# Altium integrated library Linear Technology Power Management Switching Regulator LTC1174-LTC3901.IntLib: 2647 symbols (part 184 of 364)
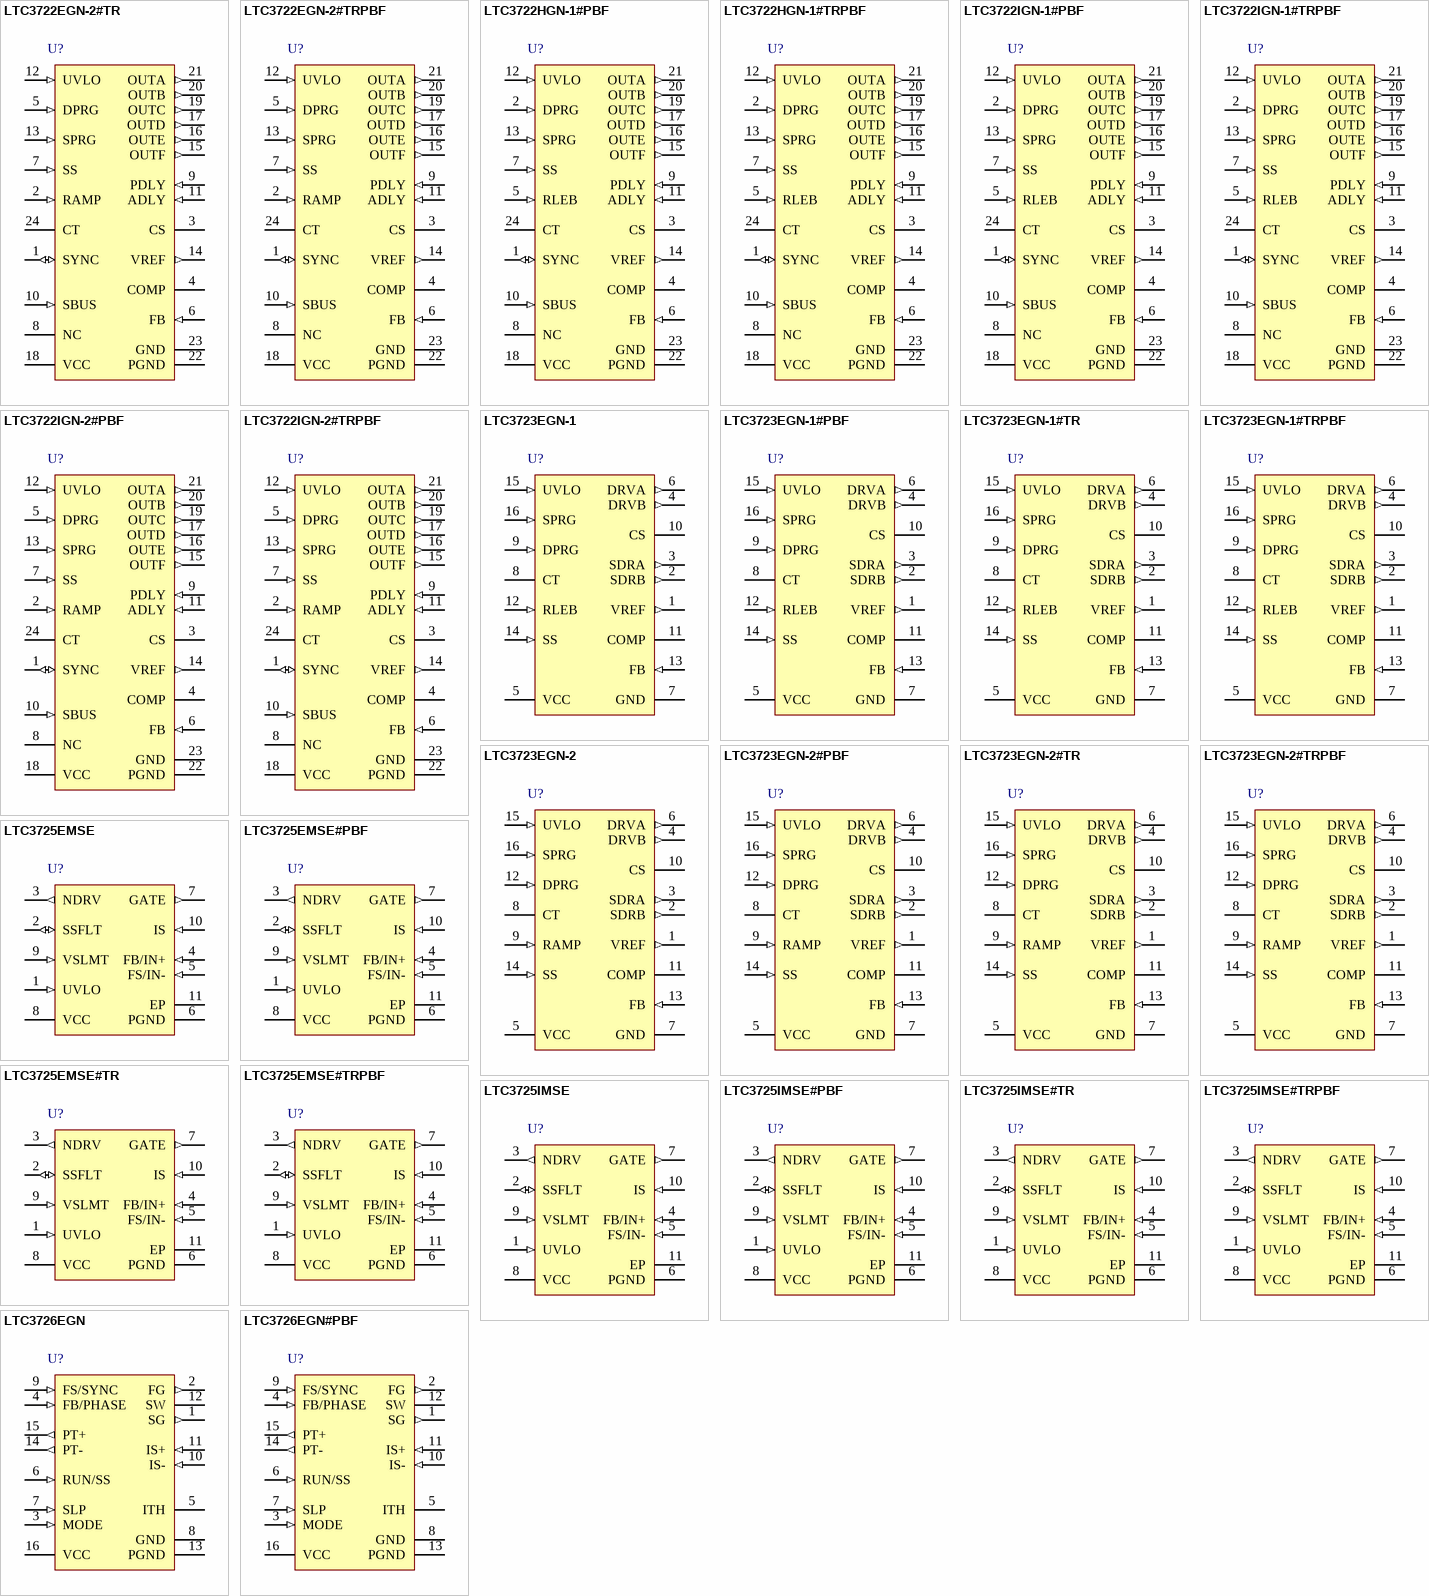
[diagram p209: symbols LTC3722EGN-2#TR to LTC3726EGN#PBF]

## LTC3725IMSE#TRPBF
designator U?
Single-Switch Forward Controller and Gate Driver, 10-pin SOP (MSE-10-EDP), -40 to 85 degC, Pb-Free, Tape and Reel; Manufacturer: Linear Technology; PartNumber: LTC3725IMSE#TRPBF; Number of Outputs: 1; DatasheetVersion: Rev. A; PackageVersion: Rev. C, 08/2009; PackageReference: MSE-10; PackageDescription: 10-Pin Plastic MSOP, Exposed Die Pad, Body 3 x 3 mm, Pitch 0.5 mm; Supplier 1: Digi-Key; Supplier Part Number 1: LTC3725IMSE#TRPBF-ND; Packing: Tape and Reel; RoHS: TRUE; Mounting Technology: Surface Mount; ComponentLink1Description: Manufacturer URL; ComponentLink1URL: http://www.linear.com/; ComponentLink2Description: Datasheet; ComponentLink2URL: http://cds.linear.com/docs/en/datasheet/3725fa.pdf; ComponentLink3Description: Package Specification; ComponentLink3URL: http://cds.linear.com/docs/en/datasheet/3481fc.pdf
footprint LT-MSE-10-EDP-2060x1830TP_N (SOP, 10-Leads, Body 3.1x3.1mm, Pitch 0.5mm, Thermal Pad 2.17x1.94mm, IPC Medium Density)
footprint LT-MSE-10-EDP-2060x1830TP_L (SOP, 10-Leads, Body 3.1x3.1mm, Pitch 0.5mm, Thermal Pad 2.17x1.94mm, IPC High Density)
footprint LT-MSE-10-EDP-2060x1830TP_M (SOP, 10-Leads, Body 3.1x3.1mm, Pitch 0.5mm, Thermal Pad 2.17x1.94mm, IPC Low Density)
pins: 1 UVLO (in) "Undervoltage Lockout. Connect to a resistive voltage divider to monitor input voltage VIN. Enables converter operation for VUVLO > 1.242V. Hysteresis is a fixed 16mV hysteresis voltage with a 4.9uA hysteresis current that (See Datasheet)", 2 SSFLT (io) "Combination Soft-Start and Fault Indicator. A capacitor to GND sets the duty cycle ramp-up rate during start-up. To indicate a fault, the SSFLT pin is momentarily pulled up to within 1.3V of VCC.", 3 NDRV (out) "Drive for the External NMOS Linear Regulator. Connect to the gate of the NMOS and connect a pull up resistor to the input voltage (VIN). Optionally, to create a trickle charger omit the NMOS device and connect NDRV to VCC.", 4 FB/IN+ (in) "This pin has several functions. One winding of a pulse transformer is connected to the FB/IN+ and FS/IN- pins. The other pulse transformer winding is connected to the LTC3706. The LTC3725 automatically detects when the (See Datasheet)", 5 FS/IN- (in) "This pin has several functions. Place a resistor from this pin to GND to set the oscillator frequency. For secondary-side control with the LTC3706, connect one winding of the pulse transformer for operation as described for (See Datasheet)", 6 PGND (power) "Supply Return for the Bottom Gate Driver and the On-Chip Bridge Rectifier.", 7 GATE (out) "Gate Drive. Connect to the gate of the external MOSFET.", 8 VCC (power) "Main VCC Power for All Driver and Control Circuitry.", 9 VSLMT (in) "Volt-Second Limit. Form an R-C integrator by connecting a resistor from VIN to VSLMT and a capacitor from VSLMT to ground. The gate drive is turned off when the voltage on the VSLMT pin exceeds 1.26V.", 10 IS (in) "Input to the Overcurrent Comparator. Connect to the positive terminal of a current-sense resistor in series with the source of the ground-referenced bottom MOSFET.", 11 EP (power) "Signal Ground."

## LTC3726EGN
designator U?
Secondary-Side Synchronous Forward Controller, 16-pin SOP (GN-16), -40 to 85 degC; Manufacturer: Linear Technology; PartNumber: LTC3726EGN; Number of Outputs: 1; DatasheetVersion: Rev. B; PackageVersion: Rev. B, 03/2012; PackageReference: GN-16; PackageDescription: 16-Pin Plastic SSOP, Body 4.9 x 3.9 mm, Pitch 0.635 mm; RoHS: FALSE; Mounting Technology: Surface Mount; ComponentLink1Description: Manufacturer URL; ComponentLink1URL: http://www.linear.com/; ComponentLink2Description: Datasheet; ComponentLink2URL: http://cds.linear.com/docs/en/datasheet/3726fb.pdf; ComponentLink3Description: Package Specification; ComponentLink3URL: http://cds.linear.com/docs/en/packaging/05081641_B_GN16.pdf
footprint LT-GN-16_N (SOP, 16-Leads, Body 5x4mm, Pitch 0.635mm, IPC Medium Density)
footprint LT-GN-16_L (SOP, 16-Leads, Body 5x4mm, Pitch 0.635mm, IPC High Density)
footprint LT-GN-16_M (SOP, 16-Leads, Body 5x4mm, Pitch 0.635mm, IPC Low Density)
pins: 1 SG (out) "Gate Drive for the “Synchronous” MOSFET.", 2 FG (out) "Gate Drive for the “Forward” MOSFET.", 3 MODE (in) "Tie to either GND or VCC to set the maximum duty cycle at either 50% or 75% respectively. Tie to ground through either a 200k or 100k resistor (50% or 75% maximum duty cycle) to disable pulse encoding. In this mode, normal (See Datasheet)", 4 FB/PHASE (in) "Inverting input of the main loop Error Amplifier and Control Input to the Phase Selector. In PolyPhase(R) Slave applications (where voltage feedback is not needed) this pin is used to determine the phasing of the controller (See Datasheet)", 5 ITH "The Output of the Main Loop Error Amplifier. Place compensation components between the ITH pin and GND.", 6 RUN/SS (in) "Combination Run Control and Soft-Start Inputs. A capacitor to ground sets the ramp time of the output voltage. Holding this pin below 0.4V causes the IC to shut down all internal circuitry.", 7 SLP (in) "Slope Compensation Input. Place a single resistor to ground to set the desired amount of slope compensation.", 8 GND (power) "Signal Ground.", 9 FS/SYNC (in) "Combination Frequency Set and SYNC pin. Tie to GND or VCC to run at 200kHz and 300kHz respec-tively. Place a single resistor to ground at this pin to set the frequency between 75kHz and 500kHz. To synchronize, drive this pin (See Datasheet)", 10 IS- (in) "Negative Input to the Current Sense Circuit. When using current sense transformers, this pin may be tied to VCC for single-ended sensing with a 1.28V maximum current trip level.", 11 IS+ (in) "Positive Input to the Current Sense Circuit. Connect to the positive end of a current sense resistor or to the output of a current sense transformer", 12 SW "Connect to the drain of the “synchronous” MOSFET. This input is used for adaptive shoot-through prevention and leading edge blanking", 13 PGND (power) "Gate Driver Ground Pin", 14 PT- (out) "Pulse Transformer Driver Outputs. For most applications, these connect to a pulse transformer (with a series DC blocking capacitor). The PWM information is multiplexed together with DC power and sent through a single pulse (See Datasheet)", 15 PT+ (out) "Pulse Transformer Driver Outputs. For most applications, these connect to a pulse transformer (with a series DC blocking capacitor). The PWM information is multiplexed together with DC power and sent through a single pulse (See Datasheet)", 16 VCC (power) "Main VCC Input for all Driver and Control Circuitry."

## LTC3726EGN#PBF
designator U?
Secondary-Side Synchronous Forward Controller, 16-pin SOP (GN-16), -40 to 85 degC, Pb-Free; Manufacturer: Linear Technology; PartNumber: LTC3726EGN#PBF; Number of Outputs: 1; DatasheetVersion: Rev. B; PackageVersion: Rev. B, 03/2012; PackageReference: GN-16; PackageDescription: 16-Pin Plastic SSOP, Body 4.9 x 3.9 mm, Pitch 0.635 mm; Supplier 1: Digi-Key; Supplier Part Number 1: LTC3726EGN#PBF-ND; RoHS: TRUE; Mounting Technology: Surface Mount; ComponentLink1Description: Manufacturer URL; ComponentLink1URL: http://www.linear.com/; ComponentLink2Description: Datasheet; ComponentLink2URL: http://cds.linear.com/docs/en/datasheet/3726fb.pdf; ComponentLink3Description: Package Specification; ComponentLink3URL: http://cds.linear.com/docs/en/packaging/05081641_B_GN16.pdf
footprint LT-GN-16_N (SOP, 16-Leads, Body 5x4mm, Pitch 0.635mm, IPC Medium Density)
footprint LT-GN-16_L (SOP, 16-Leads, Body 5x4mm, Pitch 0.635mm, IPC High Density)
footprint LT-GN-16_M (SOP, 16-Leads, Body 5x4mm, Pitch 0.635mm, IPC Low Density)
pins: 1 SG (out) "Gate Drive for the “Synchronous” MOSFET.", 2 FG (out) "Gate Drive for the “Forward” MOSFET.", 3 MODE (in) "Tie to either GND or VCC to set the maximum duty cycle at either 50% or 75% respectively. Tie to ground through either a 200k or 100k resistor (50% or 75% maximum duty cycle) to disable pulse encoding. In this mode, normal (See Datasheet)", 4 FB/PHASE (in) "Inverting input of the main loop Error Amplifier and Control Input to the Phase Selector. In PolyPhase(R) Slave applications (where voltage feedback is not needed) this pin is used to determine the phasing of the controller (See Datasheet)", 5 ITH "The Output of the Main Loop Error Amplifier. Place compensation components between the ITH pin and GND.", 6 RUN/SS (in) "Combination Run Control and Soft-Start Inputs. A capacitor to ground sets the ramp time of the output voltage. Holding this pin below 0.4V causes the IC to shut down all internal circuitry.", 7 SLP (in) "Slope Compensation Input. Place a single resistor to ground to set the desired amount of slope compensation.", 8 GND (power) "Signal Ground.", 9 FS/SYNC (in) "Combination Frequency Set and SYNC pin. Tie to GND or VCC to run at 200kHz and 300kHz respec-tively. Place a single resistor to ground at this pin to set the frequency between 75kHz and 500kHz. To synchronize, drive this pin (See Datasheet)", 10 IS- (in) "Negative Input to the Current Sense Circuit. When using current sense transformers, this pin may be tied to VCC for single-ended sensing with a 1.28V maximum current trip level.", 11 IS+ (in) "Positive Input to the Current Sense Circuit. Connect to the positive end of a current sense resistor or to the output of a current sense transformer", 12 SW "Connect to the drain of the “synchronous” MOSFET. This input is used for adaptive shoot-through prevention and leading edge blanking", 13 PGND (power) "Gate Driver Ground Pin", 14 PT- (out) "Pulse Transformer Driver Outputs. For most applications, these connect to a pulse transformer (with a series DC blocking capacitor). The PWM information is multiplexed together with DC power and sent through a single pulse (See Datasheet)", 15 PT+ (out) "Pulse Transformer Driver Outputs. For most applications, these connect to a pulse transformer (with a series DC blocking capacitor). The PWM information is multiplexed together with DC power and sent through a single pulse (See Datasheet)", 16 VCC (power) "Main VCC Input for all Driver and Control Circuitry."

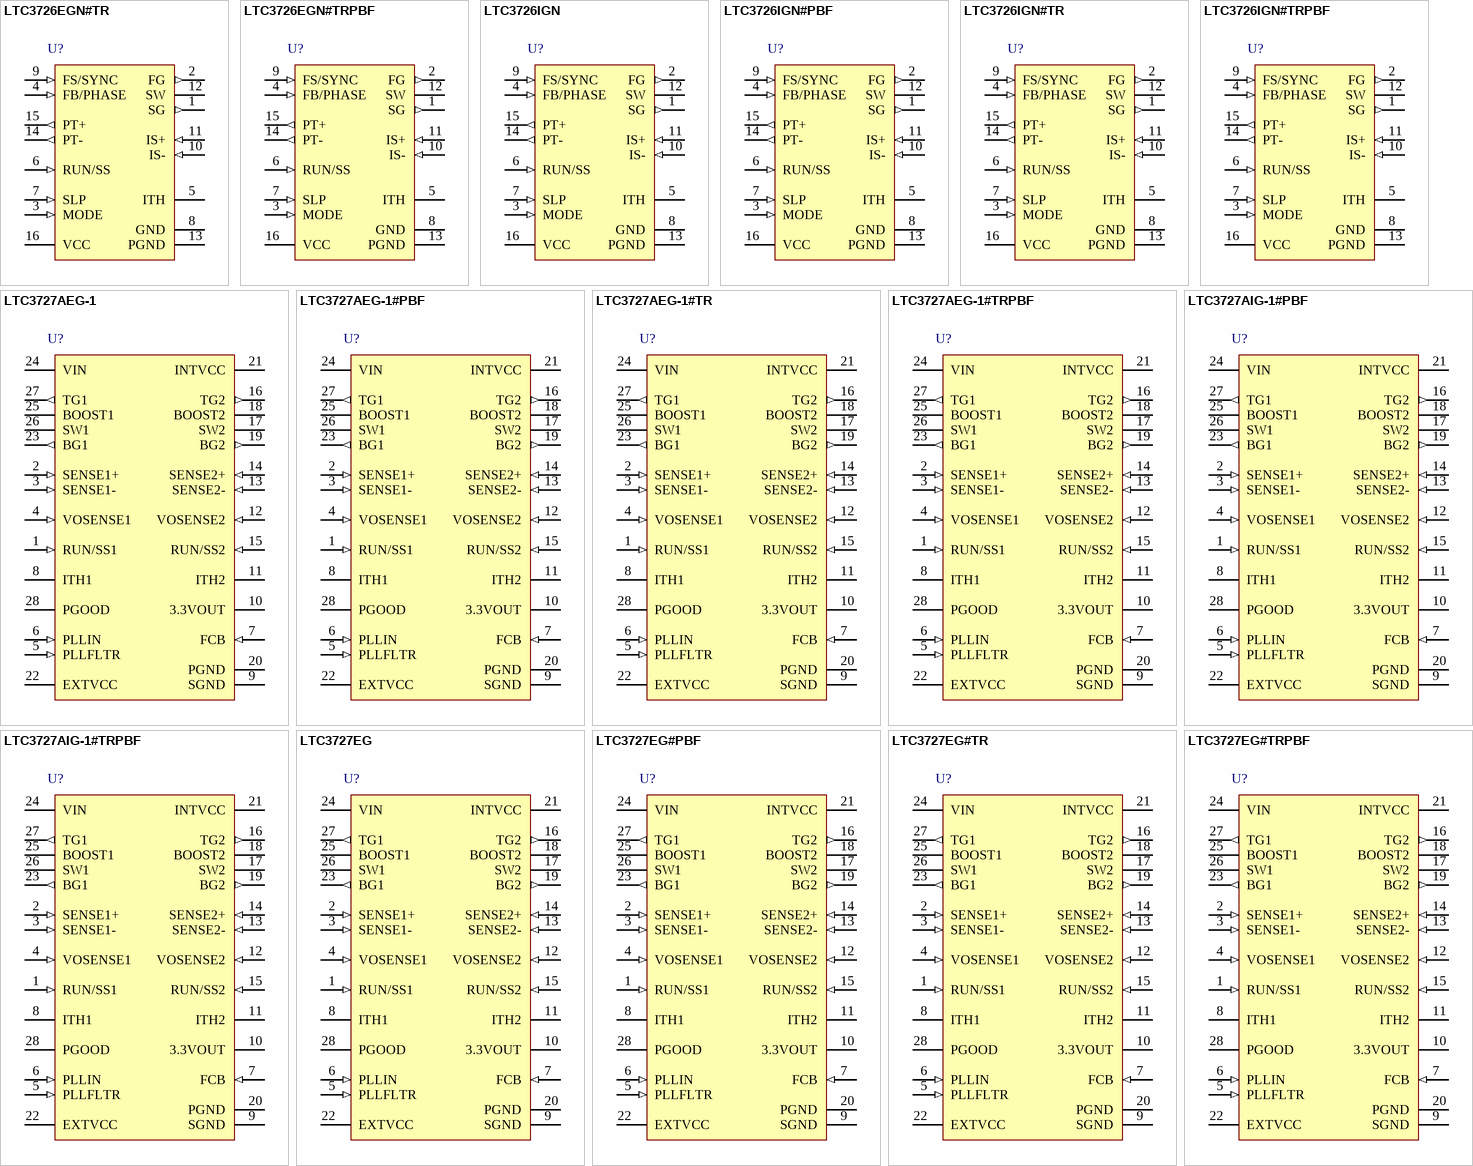
[diagram p58: symbols LTC3726EGN#TR to LTC3727EG#TRPBF]

## LTC3726EGN#TR
designator U?
Secondary-Side Synchronous Forward Controller, 16-pin SOP (GN-16), -40 to 85 degC, Tape and Reel; Manufacturer: Linear Technology; PartNumber: LTC3726EGN#TR; Number of Outputs: 1; DatasheetVersion: Rev. B; PackageVersion: Rev. B, 03/2012; PackageReference: GN-16; PackageDescription: 16-Pin Plastic SSOP, Body 4.9 x 3.9 mm, Pitch 0.635 mm; Packing: Tape and Reel; RoHS: FALSE; Mounting Technology: Surface Mount; ComponentLink1Description: Manufacturer URL; ComponentLink1URL: http://www.linear.com/; ComponentLink2Description: Datasheet; ComponentLink2URL: http://cds.linear.com/docs/en/datasheet/3726fb.pdf; ComponentLink3Description: Package Specification; ComponentLink3URL: http://cds.linear.com/docs/en/packaging/05081641_B_GN16.pdf
footprint LT-GN-16_N (SOP, 16-Leads, Body 5x4mm, Pitch 0.635mm, IPC Medium Density)
footprint LT-GN-16_L (SOP, 16-Leads, Body 5x4mm, Pitch 0.635mm, IPC High Density)
footprint LT-GN-16_M (SOP, 16-Leads, Body 5x4mm, Pitch 0.635mm, IPC Low Density)
pins: 1 SG (out) "Gate Drive for the “Synchronous” MOSFET.", 2 FG (out) "Gate Drive for the “Forward” MOSFET.", 3 MODE (in) "Tie to either GND or VCC to set the maximum duty cycle at either 50% or 75% respectively. Tie to ground through either a 200k or 100k resistor (50% or 75% maximum duty cycle) to disable pulse encoding. In this mode, normal (See Datasheet)", 4 FB/PHASE (in) "Inverting input of the main loop Error Amplifier and Control Input to the Phase Selector. In PolyPhase(R) Slave applications (where voltage feedback is not needed) this pin is used to determine the phasing of the controller (See Datasheet)", 5 ITH "The Output of the Main Loop Error Amplifier. Place compensation components between the ITH pin and GND.", 6 RUN/SS (in) "Combination Run Control and Soft-Start Inputs. A capacitor to ground sets the ramp time of the output voltage. Holding this pin below 0.4V causes the IC to shut down all internal circuitry.", 7 SLP (in) "Slope Compensation Input. Place a single resistor to ground to set the desired amount of slope compensation.", 8 GND (power) "Signal Ground.", 9 FS/SYNC (in) "Combination Frequency Set and SYNC pin. Tie to GND or VCC to run at 200kHz and 300kHz respec-tively. Place a single resistor to ground at this pin to set the frequency between 75kHz and 500kHz. To synchronize, drive this pin (See Datasheet)", 10 IS- (in) "Negative Input to the Current Sense Circuit. When using current sense transformers, this pin may be tied to VCC for single-ended sensing with a 1.28V maximum current trip level.", 11 IS+ (in) "Positive Input to the Current Sense Circuit. Connect to the positive end of a current sense resistor or to the output of a current sense transformer", 12 SW "Connect to the drain of the “synchronous” MOSFET. This input is used for adaptive shoot-through prevention and leading edge blanking", 13 PGND (power) "Gate Driver Ground Pin", 14 PT- (out) "Pulse Transformer Driver Outputs. For most applications, these connect to a pulse transformer (with a series DC blocking capacitor). The PWM information is multiplexed together with DC power and sent through a single pulse (See Datasheet)", 15 PT+ (out) "Pulse Transformer Driver Outputs. For most applications, these connect to a pulse transformer (with a series DC blocking capacitor). The PWM information is multiplexed together with DC power and sent through a single pulse (See Datasheet)", 16 VCC (power) "Main VCC Input for all Driver and Control Circuitry."

## LTC3726EGN#TRPBF
designator U?
Secondary-Side Synchronous Forward Controller, 16-pin SOP (GN-16), -40 to 85 degC, Pb-Free, Tape and Reel; Manufacturer: Linear Technology; PartNumber: LTC3726EGN#TRPBF; Number of Outputs: 1; DatasheetVersion: Rev. B; PackageVersion: Rev. B, 03/2012; PackageReference: GN-16; PackageDescription: 16-Pin Plastic SSOP, Body 4.9 x 3.9 mm, Pitch 0.635 mm; Supplier 1: Digi-Key; Supplier Part Number 1: LTC3726EGN#TRPBF-ND; Packing: Tape and Reel; RoHS: TRUE; Mounting Technology: Surface Mount; ComponentLink1Description: Manufacturer URL; ComponentLink1URL: http://www.linear.com/; ComponentLink2Description: Datasheet; ComponentLink2URL: http://cds.linear.com/docs/en/datasheet/3726fb.pdf; ComponentLink3Description: Package Specification; ComponentLink3URL: http://cds.linear.com/docs/en/packaging/05081641_B_GN16.pdf
footprint LT-GN-16_N (SOP, 16-Leads, Body 5x4mm, Pitch 0.635mm, IPC Medium Density)
footprint LT-GN-16_L (SOP, 16-Leads, Body 5x4mm, Pitch 0.635mm, IPC High Density)
footprint LT-GN-16_M (SOP, 16-Leads, Body 5x4mm, Pitch 0.635mm, IPC Low Density)
pins: 1 SG (out) "Gate Drive for the “Synchronous” MOSFET.", 2 FG (out) "Gate Drive for the “Forward” MOSFET.", 3 MODE (in) "Tie to either GND or VCC to set the maximum duty cycle at either 50% or 75% respectively. Tie to ground through either a 200k or 100k resistor (50% or 75% maximum duty cycle) to disable pulse encoding. In this mode, normal (See Datasheet)", 4 FB/PHASE (in) "Inverting input of the main loop Error Amplifier and Control Input to the Phase Selector. In PolyPhase(R) Slave applications (where voltage feedback is not needed) this pin is used to determine the phasing of the controller (See Datasheet)", 5 ITH "The Output of the Main Loop Error Amplifier. Place compensation components between the ITH pin and GND.", 6 RUN/SS (in) "Combination Run Control and Soft-Start Inputs. A capacitor to ground sets the ramp time of the output voltage. Holding this pin below 0.4V causes the IC to shut down all internal circuitry.", 7 SLP (in) "Slope Compensation Input. Place a single resistor to ground to set the desired amount of slope compensation.", 8 GND (power) "Signal Ground.", 9 FS/SYNC (in) "Combination Frequency Set and SYNC pin. Tie to GND or VCC to run at 200kHz and 300kHz respec-tively. Place a single resistor to ground at this pin to set the frequency between 75kHz and 500kHz. To synchronize, drive this pin (See Datasheet)", 10 IS- (in) "Negative Input to the Current Sense Circuit. When using current sense transformers, this pin may be tied to VCC for single-ended sensing with a 1.28V maximum current trip level.", 11 IS+ (in) "Positive Input to the Current Sense Circuit. Connect to the positive end of a current sense resistor or to the output of a current sense transformer", 12 SW "Connect to the drain of the “synchronous” MOSFET. This input is used for adaptive shoot-through prevention and leading edge blanking", 13 PGND (power) "Gate Driver Ground Pin", 14 PT- (out) "Pulse Transformer Driver Outputs. For most applications, these connect to a pulse transformer (with a series DC blocking capacitor). The PWM information is multiplexed together with DC power and sent through a single pulse (See Datasheet)", 15 PT+ (out) "Pulse Transformer Driver Outputs. For most applications, these connect to a pulse transformer (with a series DC blocking capacitor). The PWM information is multiplexed together with DC power and sent through a single pulse (See Datasheet)", 16 VCC (power) "Main VCC Input for all Driver and Control Circuitry."

## LTC3726IGN
designator U?
Secondary-Side Synchronous Forward Controller, 16-pin SOP (GN-16), -40 to 85 degC; Manufacturer: Linear Technology; PartNumber: LTC3726IGN; Number of Outputs: 1; DatasheetVersion: Rev. B; PackageVersion: Rev. B, 03/2012; PackageReference: GN-16; PackageDescription: 16-Pin Plastic SSOP, Body 4.9 x 3.9 mm, Pitch 0.635 mm; RoHS: FALSE; Mounting Technology: Surface Mount; ComponentLink1Description: Manufacturer URL; ComponentLink1URL: http://www.linear.com/; ComponentLink2Description: Datasheet; ComponentLink2URL: http://cds.linear.com/docs/en/datasheet/3726fb.pdf; ComponentLink3Description: Package Specification; ComponentLink3URL: http://cds.linear.com/docs/en/packaging/05081641_B_GN16.pdf
footprint LT-GN-16_N (SOP, 16-Leads, Body 5x4mm, Pitch 0.635mm, IPC Medium Density)
footprint LT-GN-16_L (SOP, 16-Leads, Body 5x4mm, Pitch 0.635mm, IPC High Density)
footprint LT-GN-16_M (SOP, 16-Leads, Body 5x4mm, Pitch 0.635mm, IPC Low Density)
pins: 1 SG (out) "Gate Drive for the “Synchronous” MOSFET.", 2 FG (out) "Gate Drive for the “Forward” MOSFET.", 3 MODE (in) "Tie to either GND or VCC to set the maximum duty cycle at either 50% or 75% respectively. Tie to ground through either a 200k or 100k resistor (50% or 75% maximum duty cycle) to disable pulse encoding. In this mode, normal (See Datasheet)", 4 FB/PHASE (in) "Inverting input of the main loop Error Amplifier and Control Input to the Phase Selector. In PolyPhase(R) Slave applications (where voltage feedback is not needed) this pin is used to determine the phasing of the controller (See Datasheet)", 5 ITH "The Output of the Main Loop Error Amplifier. Place compensation components between the ITH pin and GND.", 6 RUN/SS (in) "Combination Run Control and Soft-Start Inputs. A capacitor to ground sets the ramp time of the output voltage. Holding this pin below 0.4V causes the IC to shut down all internal circuitry.", 7 SLP (in) "Slope Compensation Input. Place a single resistor to ground to set the desired amount of slope compensation.", 8 GND (power) "Signal Ground.", 9 FS/SYNC (in) "Combination Frequency Set and SYNC pin. Tie to GND or VCC to run at 200kHz and 300kHz respec-tively. Place a single resistor to ground at this pin to set the frequency between 75kHz and 500kHz. To synchronize, drive this pin (See Datasheet)", 10 IS- (in) "Negative Input to the Current Sense Circuit. When using current sense transformers, this pin may be tied to VCC for single-ended sensing with a 1.28V maximum current trip level.", 11 IS+ (in) "Positive Input to the Current Sense Circuit. Connect to the positive end of a current sense resistor or to the output of a current sense transformer", 12 SW "Connect to the drain of the “synchronous” MOSFET. This input is used for adaptive shoot-through prevention and leading edge blanking", 13 PGND (power) "Gate Driver Ground Pin", 14 PT- (out) "Pulse Transformer Driver Outputs. For most applications, these connect to a pulse transformer (with a series DC blocking capacitor). The PWM information is multiplexed together with DC power and sent through a single pulse (See Datasheet)", 15 PT+ (out) "Pulse Transformer Driver Outputs. For most applications, these connect to a pulse transformer (with a series DC blocking capacitor). The PWM information is multiplexed together with DC power and sent through a single pulse (See Datasheet)", 16 VCC (power) "Main VCC Input for all Driver and Control Circuitry."

## LTC3726IGN#PBF
designator U?
Secondary-Side Synchronous Forward Controller, 16-pin SOP (GN-16), -40 to 85 degC, Pb-Free; Manufacturer: Linear Technology; PartNumber: LTC3726IGN#PBF; Number of Outputs: 1; DatasheetVersion: Rev. B; PackageVersion: Rev. B, 03/2012; PackageReference: GN-16; PackageDescription: 16-Pin Plastic SSOP, Body 4.9 x 3.9 mm, Pitch 0.635 mm; Supplier 1: Digi-Key; Supplier Part Number 1: LTC3726IGN#PBF-ND; Supplier 2: Newark; Supplier Part Number 2: 56M8189; RoHS: TRUE; Mounting Technology: Surface Mount; ComponentLink1Description: Manufacturer URL; ComponentLink1URL: http://www.linear.com/; ComponentLink2Description: Datasheet; ComponentLink2URL: http://cds.linear.com/docs/en/datasheet/3726fb.pdf; ComponentLink3Description: Package Specification; ComponentLink3URL: http://cds.linear.com/docs/en/packaging/05081641_B_GN16.pdf
footprint LT-GN-16_N (SOP, 16-Leads, Body 5x4mm, Pitch 0.635mm, IPC Medium Density)
footprint LT-GN-16_L (SOP, 16-Leads, Body 5x4mm, Pitch 0.635mm, IPC High Density)
footprint LT-GN-16_M (SOP, 16-Leads, Body 5x4mm, Pitch 0.635mm, IPC Low Density)
pins: 1 SG (out) "Gate Drive for the “Synchronous” MOSFET.", 2 FG (out) "Gate Drive for the “Forward” MOSFET.", 3 MODE (in) "Tie to either GND or VCC to set the maximum duty cycle at either 50% or 75% respectively. Tie to ground through either a 200k or 100k resistor (50% or 75% maximum duty cycle) to disable pulse encoding. In this mode, normal (See Datasheet)", 4 FB/PHASE (in) "Inverting input of the main loop Error Amplifier and Control Input to the Phase Selector. In PolyPhase(R) Slave applications (where voltage feedback is not needed) this pin is used to determine the phasing of the controller (See Datasheet)", 5 ITH "The Output of the Main Loop Error Amplifier. Place compensation components between the ITH pin and GND.", 6 RUN/SS (in) "Combination Run Control and Soft-Start Inputs. A capacitor to ground sets the ramp time of the output voltage. Holding this pin below 0.4V causes the IC to shut down all internal circuitry.", 7 SLP (in) "Slope Compensation Input. Place a single resistor to ground to set the desired amount of slope compensation.", 8 GND (power) "Signal Ground.", 9 FS/SYNC (in) "Combination Frequency Set and SYNC pin. Tie to GND or VCC to run at 200kHz and 300kHz respec-tively. Place a single resistor to ground at this pin to set the frequency between 75kHz and 500kHz. To synchronize, drive this pin (See Datasheet)", 10 IS- (in) "Negative Input to the Current Sense Circuit. When using current sense transformers, this pin may be tied to VCC for single-ended sensing with a 1.28V maximum current trip level.", 11 IS+ (in) "Positive Input to the Current Sense Circuit. Connect to the positive end of a current sense resistor or to the output of a current sense transformer", 12 SW "Connect to the drain of the “synchronous” MOSFET. This input is used for adaptive shoot-through prevention and leading edge blanking", 13 PGND (power) "Gate Driver Ground Pin", 14 PT- (out) "Pulse Transformer Driver Outputs. For most applications, these connect to a pulse transformer (with a series DC blocking capacitor). The PWM information is multiplexed together with DC power and sent through a single pulse (See Datasheet)", 15 PT+ (out) "Pulse Transformer Driver Outputs. For most applications, these connect to a pulse transformer (with a series DC blocking capacitor). The PWM information is multiplexed together with DC power and sent through a single pulse (See Datasheet)", 16 VCC (power) "Main VCC Input for all Driver and Control Circuitry."

## LTC3726IGN#TR
designator U?
Secondary-Side Synchronous Forward Controller, 16-pin SOP (GN-16), -40 to 85 degC, Tape and Reel; Manufacturer: Linear Technology; PartNumber: LTC3726IGN#TR; Number of Outputs: 1; DatasheetVersion: Rev. B; PackageVersion: Rev. B, 03/2012; PackageReference: GN-16; PackageDescription: 16-Pin Plastic SSOP, Body 4.9 x 3.9 mm, Pitch 0.635 mm; Packing: Tape and Reel; RoHS: FALSE; Mounting Technology: Surface Mount; ComponentLink1Description: Manufacturer URL; ComponentLink1URL: http://www.linear.com/; ComponentLink2Description: Datasheet; ComponentLink2URL: http://cds.linear.com/docs/en/datasheet/3726fb.pdf; ComponentLink3Description: Package Specification; ComponentLink3URL: http://cds.linear.com/docs/en/packaging/05081641_B_GN16.pdf
footprint LT-GN-16_N (SOP, 16-Leads, Body 5x4mm, Pitch 0.635mm, IPC Medium Density)
footprint LT-GN-16_L (SOP, 16-Leads, Body 5x4mm, Pitch 0.635mm, IPC High Density)
footprint LT-GN-16_M (SOP, 16-Leads, Body 5x4mm, Pitch 0.635mm, IPC Low Density)
pins: 1 SG (out) "Gate Drive for the “Synchronous” MOSFET.", 2 FG (out) "Gate Drive for the “Forward” MOSFET.", 3 MODE (in) "Tie to either GND or VCC to set the maximum duty cycle at either 50% or 75% respectively. Tie to ground through either a 200k or 100k resistor (50% or 75% maximum duty cycle) to disable pulse encoding. In this mode, normal (See Datasheet)", 4 FB/PHASE (in) "Inverting input of the main loop Error Amplifier and Control Input to the Phase Selector. In PolyPhase(R) Slave applications (where voltage feedback is not needed) this pin is used to determine the phasing of the controller (See Datasheet)", 5 ITH "The Output of the Main Loop Error Amplifier. Place compensation components between the ITH pin and GND.", 6 RUN/SS (in) "Combination Run Control and Soft-Start Inputs. A capacitor to ground sets the ramp time of the output voltage. Holding this pin below 0.4V causes the IC to shut down all internal circuitry.", 7 SLP (in) "Slope Compensation Input. Place a single resistor to ground to set the desired amount of slope compensation.", 8 GND (power) "Signal Ground.", 9 FS/SYNC (in) "Combination Frequency Set and SYNC pin. Tie to GND or VCC to run at 200kHz and 300kHz respec-tively. Place a single resistor to ground at this pin to set the frequency between 75kHz and 500kHz. To synchronize, drive this pin (See Datasheet)", 10 IS- (in) "Negative Input to the Current Sense Circuit. When using current sense transformers, this pin may be tied to VCC for single-ended sensing with a 1.28V maximum current trip level.", 11 IS+ (in) "Positive Input to the Current Sense Circuit. Connect to the positive end of a current sense resistor or to the output of a current sense transformer", 12 SW "Connect to the drain of the “synchronous” MOSFET. This input is used for adaptive shoot-through prevention and leading edge blanking", 13 PGND (power) "Gate Driver Ground Pin", 14 PT- (out) "Pulse Transformer Driver Outputs. For most applications, these connect to a pulse transformer (with a series DC blocking capacitor). The PWM information is multiplexed together with DC power and sent through a single pulse (See Datasheet)", 15 PT+ (out) "Pulse Transformer Driver Outputs. For most applications, these connect to a pulse transformer (with a series DC blocking capacitor). The PWM information is multiplexed together with DC power and sent through a single pulse (See Datasheet)", 16 VCC (power) "Main VCC Input for all Driver and Control Circuitry."

## LTC3726IGN#TRPBF
designator U?
Secondary-Side Synchronous Forward Controller, 16-pin SOP (GN-16), -40 to 85 degC, Pb-Free, Tape and Reel; Manufacturer: Linear Technology; PartNumber: LTC3726IGN#TRPBF; Number of Outputs: 1; DatasheetVersion: Rev. B; PackageVersion: Rev. B, 03/2012; PackageReference: GN-16; PackageDescription: 16-Pin Plastic SSOP, Body 4.9 x 3.9 mm, Pitch 0.635 mm; Supplier 1: Digi-Key; Supplier Part Number 1: LTC3726IGN#TRPBF-ND; Packing: Tape and Reel; RoHS: TRUE; Mounting Technology: Surface Mount; ComponentLink1Description: Manufacturer URL; ComponentLink1URL: http://www.linear.com/; ComponentLink2Description: Datasheet; ComponentLink2URL: http://cds.linear.com/docs/en/datasheet/3726fb.pdf; ComponentLink3Description: Package Specification; ComponentLink3URL: http://cds.linear.com/docs/en/packaging/05081641_B_GN16.pdf
footprint LT-GN-16_N (SOP, 16-Leads, Body 5x4mm, Pitch 0.635mm, IPC Medium Density)
footprint LT-GN-16_L (SOP, 16-Leads, Body 5x4mm, Pitch 0.635mm, IPC High Density)
footprint LT-GN-16_M (SOP, 16-Leads, Body 5x4mm, Pitch 0.635mm, IPC Low Density)
pins: 1 SG (out) "Gate Drive for the “Synchronous” MOSFET.", 2 FG (out) "Gate Drive for the “Forward” MOSFET.", 3 MODE (in) "Tie to either GND or VCC to set the maximum duty cycle at either 50% or 75% respectively. Tie to ground through either a 200k or 100k resistor (50% or 75% maximum duty cycle) to disable pulse encoding. In this mode, normal (See Datasheet)", 4 FB/PHASE (in) "Inverting input of the main loop Error Amplifier and Control Input to the Phase Selector. In PolyPhase(R) Slave applications (where voltage feedback is not needed) this pin is used to determine the phasing of the controller (See Datasheet)", 5 ITH "The Output of the Main Loop Error Amplifier. Place compensation components between the ITH pin and GND.", 6 RUN/SS (in) "Combination Run Control and Soft-Start Inputs. A capacitor to ground sets the ramp time of the output voltage. Holding this pin below 0.4V causes the IC to shut down all internal circuitry.", 7 SLP (in) "Slope Compensation Input. Place a single resistor to ground to set the desired amount of slope compensation.", 8 GND (power) "Signal Ground.", 9 FS/SYNC (in) "Combination Frequency Set and SYNC pin. Tie to GND or VCC to run at 200kHz and 300kHz respec-tively. Place a single resistor to ground at this pin to set the frequency between 75kHz and 500kHz. To synchronize, drive this pin (See Datasheet)", 10 IS- (in) "Negative Input to the Current Sense Circuit. When using current sense transformers, this pin may be tied to VCC for single-ended sensing with a 1.28V maximum current trip level.", 11 IS+ (in) "Positive Input to the Current Sense Circuit. Connect to the positive end of a current sense resistor or to the output of a current sense transformer", 12 SW "Connect to the drain of the “synchronous” MOSFET. This input is used for adaptive shoot-through prevention and leading edge blanking", 13 PGND (power) "Gate Driver Ground Pin", 14 PT- (out) "Pulse Transformer Driver Outputs. For most applications, these connect to a pulse transformer (with a series DC blocking capacitor). The PWM information is multiplexed together with DC power and sent through a single pulse (See Datasheet)", 15 PT+ (out) "Pulse Transformer Driver Outputs. For most applications, these connect to a pulse transformer (with a series DC blocking capacitor). The PWM information is multiplexed together with DC power and sent through a single pulse (See Datasheet)", 16 VCC (power) "Main VCC Input for all Driver and Control Circuitry."

## LTC3727AEG-1
designator U?
High Efficiency, 2-Phase Synchronous Step-Down Switching Regulator, 28-pin SOP (G-28), -40 to 85 degC; Manufacturer: Linear Technology; PartNumber: LTC3727AEG-1; Frequency Sync Range: 250kHz - 550kHz; Number of Outputs: 2; DatasheetVersion: Rev. A; PackageVersion: Jun-10; PackageReference: G-28; PackageDescription: 28-Pin Plastic SSOP, Body 10.2 x 5.3 mm, Pitch 0.65 mm; RoHS: FALSE; Mounting Technology: Surface Mount; ComponentLink1Description: Manufacturer URL; ComponentLink1URL: http://www.linear.com/; ComponentLink2Description: Datasheet; ComponentLink2URL: http://cds.linear.com/docs/en/datasheet/3727a1fa.pdf; ComponentLink3Description: Package Specification; ComponentLink3URL: http://cds.linear.com/docs/en/packaging/SSOP_28_05-08-1640.pdf
footprint LT-G-28_N (SOP, 28-Leads, Body 10.2x5.3mm, Pitch 0.65mm, IPC Medium Density)
footprint LT-G-28_L (SOP, 28-Leads, Body 10.2x5.3mm, Pitch 0.65mm, IPC High Density)
footprint LT-G-28_M (SOP, 28-Leads, Body 10.2x5.3mm, Pitch 0.65mm, IPC Low Density)
pins: 1 RUN/SS1 (in), 2 SENSE1+ (in) "The (+) Input to the Differential Current Comparators. The ITH pin voltage and controlled offsets between the SENSE- and SENSE+ pins in conjunction with RSENSE set the current trip threshold.", 3 SENSE1- (in) "The (-) Input to the Differential Current Comparators.", 4 VOSENSE1 (in) "Receives the remotely-sensed feedback voltage for each controller from an external resistive divider across the output.", 5 PLLFLTR (in) "The phase-locked loop’s lowpass filter is tied to this pin. Alternatively, this pin can be driven with an AC or DC voltage source to vary the frequency of the internal oscillator.", 6 PLLIN (in) "External Synchronization Input to Phase Detector. This pin is internally terminated to SGND with 50kohm. The phase-locked loop will force the rising top gate signal of controller 1 to be synchronized with the rising edge of (See Datasheet)", 7 FCB (in) "Forced Continuous Control Input. This input acts on both controllers and is normally used to regulate a secondary winding. Pulling this pin below 0.8V will force continuous synchronous operation. Do not leave this pin (See Datasheet)", 8 ITH1 "Error Amplifier Outputs and Switching Regulator Compensation Point. Each associated channels’ current comparator trip point increases with this control voltage.", 9 SGND (power) "Small Signal Ground. Common to both controllers; must be routed separately from high current grounds to the common (-) terminals of the COUT capacitors.", 10 3.3VOUT (power), 11 ITH2 "Error Amplifier Outputs and Switching Regulator Compensation Point. Each associated channels’ current comparator trip point increases with this control voltage.", 12 VOSENSE2 (in) "Receives the remotely-sensed feedback voltage for each controller from an external resistive divider across the output.", 13 SENSE2- (in) "The (-) Input to the Differential Current Comparators.", 14 SENSE2+ (in) "The (+) Input to the Differential Current Comparators. The ITH pin voltage and controlled offsets between the SENSE- and SENSE+ pins in conjunction with RSENSE set the current trip threshold.", 15 RUN/SS2 (in), 16 TG2 (out) "High Current Gate Drives for Top N-Channel MOSFETs. These are the outputs of floating drivers with a voltage swing equal to INTVCC - 0.5V superimposed on the switch node voltage SW.", 17 SW2 "Switch Node Connections to Inductors. Voltage swing at these pins is from a Schottky diode (external) voltage drop below ground to VIN.", 18 BOOST2 "Bootstrapped Supplies to the Top Side Floating Drivers. Capacitors are connected between the boost and switch pins and Schottky diodes are tied between the boost and INTVCC pins. Voltage swing at the boost pins is from (See Datasheet)", 19 BG2 (out) "High Current Gate Drives for Bottom (Synchronous) N-Channel MOSFETs. Voltage swing at these pins is from ground to INTVCC", 20 PGND (power) "Driver Power Ground. Connects to the sources of bottom (synchronous) N-channel MOSFETs, anodes of the Schottky rectifiers and the (-) terminal(s) of CIN.", 21 INTVCC (power), 22 EXTVCC (power), 23 BG1 (out) "High Current Gate Drives for Bottom (Synchronous) N-Channel MOSFETs. Voltage swing at these pins is from ground to INTVCC", 24 VIN (power) "Main Supply Pin. A bypass capacitor should be tied between this pin and the signal ground pin.", 25 BOOST1 "Bootstrapped Supplies to the Top Side Floating Drivers. Capacitors are connected between the boost and switch pins and Schottky diodes are tied between the boost and INTVCC pins. Voltage swing at the boost pins is from (See Datasheet)", 26 SW1 "Switch Node Connections to Inductors. Voltage swing at these pins is from a Schottky diode (external) voltage drop below ground to VIN.", 27 TG1 (out) "High Current Gate Drives for Top N-Channel MOSFETs. These are the outputs of floating drivers with a voltage swing equal to INTVCC - 0.5V superimposed on the switch node voltage SW.", 28 PGOOD (oc) "Open-Drain Logic Output. PGOOD is pulled to ground when the voltage on either VOSENSE pin is not within +/-7.5% of its set point."

## LTC3727AEG-1#PBF
designator U?
High Efficiency, 2-Phase Synchronous Step-Down Switching Regulator, 28-pin SOP (G-28), -40 to 85 degC, Pb-Free; Manufacturer: Linear Technology; PartNumber: LTC3727AEG-1#PBF; Frequency Sync Range: 250kHz - 550kHz; Number of Outputs: 2; DatasheetVersion: Rev. A; PackageVersion: Jun-10; PackageReference: G-28; PackageDescription: 28-Pin Plastic SSOP, Body 10.2 x 5.3 mm, Pitch 0.65 mm; Supplier 1: Digi-Key; Supplier Part Number 1: LTC3727AEG-1#PBF-ND; Supplier 2: Farnell; Supplier Part Number 2: 2295125; RoHS: TRUE; Mounting Technology: Surface Mount; ComponentLink1Description: Manufacturer URL; ComponentLink1URL: http://www.linear.com/; ComponentLink2Description: Datasheet; ComponentLink2URL: http://cds.linear.com/docs/en/datasheet/3727a1fa.pdf; ComponentLink3Description: Package Specification; ComponentLink3URL: http://cds.linear.com/docs/en/packaging/SSOP_28_05-08-1640.pdf
footprint LT-G-28_N (SOP, 28-Leads, Body 10.2x5.3mm, Pitch 0.65mm, IPC Medium Density)
footprint LT-G-28_L (SOP, 28-Leads, Body 10.2x5.3mm, Pitch 0.65mm, IPC High Density)
footprint LT-G-28_M (SOP, 28-Leads, Body 10.2x5.3mm, Pitch 0.65mm, IPC Low Density)
pins: 1 RUN/SS1 (in), 2 SENSE1+ (in) "The (+) Input to the Differential Current Comparators. The ITH pin voltage and controlled offsets between the SENSE- and SENSE+ pins in conjunction with RSENSE set the current trip threshold.", 3 SENSE1- (in) "The (-) Input to the Differential Current Comparators.", 4 VOSENSE1 (in) "Receives the remotely-sensed feedback voltage for each controller from an external resistive divider across the output.", 5 PLLFLTR (in) "The phase-locked loop’s lowpass filter is tied to this pin. Alternatively, this pin can be driven with an AC or DC voltage source to vary the frequency of the internal oscillator.", 6 PLLIN (in) "External Synchronization Input to Phase Detector. This pin is internally terminated to SGND with 50kohm. The phase-locked loop will force the rising top gate signal of controller 1 to be synchronized with the rising edge of (See Datasheet)", 7 FCB (in) "Forced Continuous Control Input. This input acts on both controllers and is normally used to regulate a secondary winding. Pulling this pin below 0.8V will force continuous synchronous operation. Do not leave this pin (See Datasheet)", 8 ITH1 "Error Amplifier Outputs and Switching Regulator Compensation Point. Each associated channels’ current comparator trip point increases with this control voltage.", 9 SGND (power) "Small Signal Ground. Common to both controllers; must be routed separately from high current grounds to the common (-) terminals of the COUT capacitors.", 10 3.3VOUT (power), 11 ITH2 "Error Amplifier Outputs and Switching Regulator Compensation Point. Each associated channels’ current comparator trip point increases with this control voltage.", 12 VOSENSE2 (in) "Receives the remotely-sensed feedback voltage for each controller from an external resistive divider across the output.", 13 SENSE2- (in) "The (-) Input to the Differential Current Comparators.", 14 SENSE2+ (in) "The (+) Input to the Differential Current Comparators. The ITH pin voltage and controlled offsets between the SENSE- and SENSE+ pins in conjunction with RSENSE set the current trip threshold.", 15 RUN/SS2 (in), 16 TG2 (out) "High Current Gate Drives for Top N-Channel MOSFETs. These are the outputs of floating drivers with a voltage swing equal to INTVCC - 0.5V superimposed on the switch node voltage SW.", 17 SW2 "Switch Node Connections to Inductors. Voltage swing at these pins is from a Schottky diode (external) voltage drop below ground to VIN.", 18 BOOST2 "Bootstrapped Supplies to the Top Side Floating Drivers. Capacitors are connected between the boost and switch pins and Schottky diodes are tied between the boost and INTVCC pins. Voltage swing at the boost pins is from (See Datasheet)", 19 BG2 (out) "High Current Gate Drives for Bottom (Synchronous) N-Channel MOSFETs. Voltage swing at these pins is from ground to INTVCC", 20 PGND (power) "Driver Power Ground. Connects to the sources of bottom (synchronous) N-channel MOSFETs, anodes of the Schottky rectifiers and the (-) terminal(s) of CIN.", 21 INTVCC (power), 22 EXTVCC (power), 23 BG1 (out) "High Current Gate Drives for Bottom (Synchronous) N-Channel MOSFETs. Voltage swing at these pins is from ground to INTVCC", 24 VIN (power) "Main Supply Pin. A bypass capacitor should be tied between this pin and the signal ground pin.", 25 BOOST1 "Bootstrapped Supplies to the Top Side Floating Drivers. Capacitors are connected between the boost and switch pins and Schottky diodes are tied between the boost and INTVCC pins. Voltage swing at the boost pins is from (See Datasheet)", 26 SW1 "Switch Node Connections to Inductors. Voltage swing at these pins is from a Schottky diode (external) voltage drop below ground to VIN.", 27 TG1 (out) "High Current Gate Drives for Top N-Channel MOSFETs. These are the outputs of floating drivers with a voltage swing equal to INTVCC - 0.5V superimposed on the switch node voltage SW.", 28 PGOOD (oc) "Open-Drain Logic Output. PGOOD is pulled to ground when the voltage on either VOSENSE pin is not within +/-7.5% of its set point."

## LTC3727AEG-1#TR
designator U?
High Efficiency, 2-Phase Synchronous Step-Down Switching Regulator, 28-pin SOP (G-28), -40 to 85 degC, Tape and Reel; Manufacturer: Linear Technology; PartNumber: LTC3727AEG-1#TR; Frequency Sync Range: 250kHz - 550kHz; Number of Outputs: 2; DatasheetVersion: Rev. A; PackageVersion: Jun-10; PackageReference: G-28; PackageDescription: 28-Pin Plastic SSOP, Body 10.2 x 5.3 mm, Pitch 0.65 mm; Packing: Tape and Reel; RoHS: FALSE; Mounting Technology: Surface Mount; ComponentLink1Description: Manufacturer URL; ComponentLink1URL: http://www.linear.com/; ComponentLink2Description: Datasheet; ComponentLink2URL: http://cds.linear.com/docs/en/datasheet/3727a1fa.pdf; ComponentLink3Description: Package Specification; ComponentLink3URL: http://cds.linear.com/docs/en/packaging/SSOP_28_05-08-1640.pdf
footprint LT-G-28_N (SOP, 28-Leads, Body 10.2x5.3mm, Pitch 0.65mm, IPC Medium Density)
footprint LT-G-28_L (SOP, 28-Leads, Body 10.2x5.3mm, Pitch 0.65mm, IPC High Density)
footprint LT-G-28_M (SOP, 28-Leads, Body 10.2x5.3mm, Pitch 0.65mm, IPC Low Density)
pins: 1 RUN/SS1 (in), 2 SENSE1+ (in) "The (+) Input to the Differential Current Comparators. The ITH pin voltage and controlled offsets between the SENSE- and SENSE+ pins in conjunction with RSENSE set the current trip threshold.", 3 SENSE1- (in) "The (-) Input to the Differential Current Comparators.", 4 VOSENSE1 (in) "Receives the remotely-sensed feedback voltage for each controller from an external resistive divider across the output.", 5 PLLFLTR (in) "The phase-locked loop’s lowpass filter is tied to this pin. Alternatively, this pin can be driven with an AC or DC voltage source to vary the frequency of the internal oscillator.", 6 PLLIN (in) "External Synchronization Input to Phase Detector. This pin is internally terminated to SGND with 50kohm. The phase-locked loop will force the rising top gate signal of controller 1 to be synchronized with the rising edge of (See Datasheet)", 7 FCB (in) "Forced Continuous Control Input. This input acts on both controllers and is normally used to regulate a secondary winding. Pulling this pin below 0.8V will force continuous synchronous operation. Do not leave this pin (See Datasheet)", 8 ITH1 "Error Amplifier Outputs and Switching Regulator Compensation Point. Each associated channels’ current comparator trip point increases with this control voltage.", 9 SGND (power) "Small Signal Ground. Common to both controllers; must be routed separately from high current grounds to the common (-) terminals of the COUT capacitors.", 10 3.3VOUT (power), 11 ITH2 "Error Amplifier Outputs and Switching Regulator Compensation Point. Each associated channels’ current comparator trip point increases with this control voltage.", 12 VOSENSE2 (in) "Receives the remotely-sensed feedback voltage for each controller from an external resistive divider across the output.", 13 SENSE2- (in) "The (-) Input to the Differential Current Comparators.", 14 SENSE2+ (in) "The (+) Input to the Differential Current Comparators. The ITH pin voltage and controlled offsets between the SENSE- and SENSE+ pins in conjunction with RSENSE set the current trip threshold.", 15 RUN/SS2 (in), 16 TG2 (out) "High Current Gate Drives for Top N-Channel MOSFETs. These are the outputs of floating drivers with a voltage swing equal to INTVCC - 0.5V superimposed on the switch node voltage SW.", 17 SW2 "Switch Node Connections to Inductors. Voltage swing at these pins is from a Schottky diode (external) voltage drop below ground to VIN.", 18 BOOST2 "Bootstrapped Supplies to the Top Side Floating Drivers. Capacitors are connected between the boost and switch pins and Schottky diodes are tied between the boost and INTVCC pins. Voltage swing at the boost pins is from (See Datasheet)", 19 BG2 (out) "High Current Gate Drives for Bottom (Synchronous) N-Channel MOSFETs. Voltage swing at these pins is from ground to INTVCC", 20 PGND (power) "Driver Power Ground. Connects to the sources of bottom (synchronous) N-channel MOSFETs, anodes of the Schottky rectifiers and the (-) terminal(s) of CIN.", 21 INTVCC (power), 22 EXTVCC (power), 23 BG1 (out) "High Current Gate Drives for Bottom (Synchronous) N-Channel MOSFETs. Voltage swing at these pins is from ground to INTVCC", 24 VIN (power) "Main Supply Pin. A bypass capacitor should be tied between this pin and the signal ground pin.", 25 BOOST1 "Bootstrapped Supplies to the Top Side Floating Drivers. Capacitors are connected between the boost and switch pins and Schottky diodes are tied between the boost and INTVCC pins. Voltage swing at the boost pins is from (See Datasheet)", 26 SW1 "Switch Node Connections to Inductors. Voltage swing at these pins is from a Schottky diode (external) voltage drop below ground to VIN.", 27 TG1 (out) "High Current Gate Drives for Top N-Channel MOSFETs. These are the outputs of floating drivers with a voltage swing equal to INTVCC - 0.5V superimposed on the switch node voltage SW.", 28 PGOOD (oc) "Open-Drain Logic Output. PGOOD is pulled to ground when the voltage on either VOSENSE pin is not within +/-7.5% of its set point."